# Altium schematic symbol library axsem_actives_v1-9.SCHLIB: 25 symbols
Pins are listed as number, name and electrical type; pins without a type are passive.

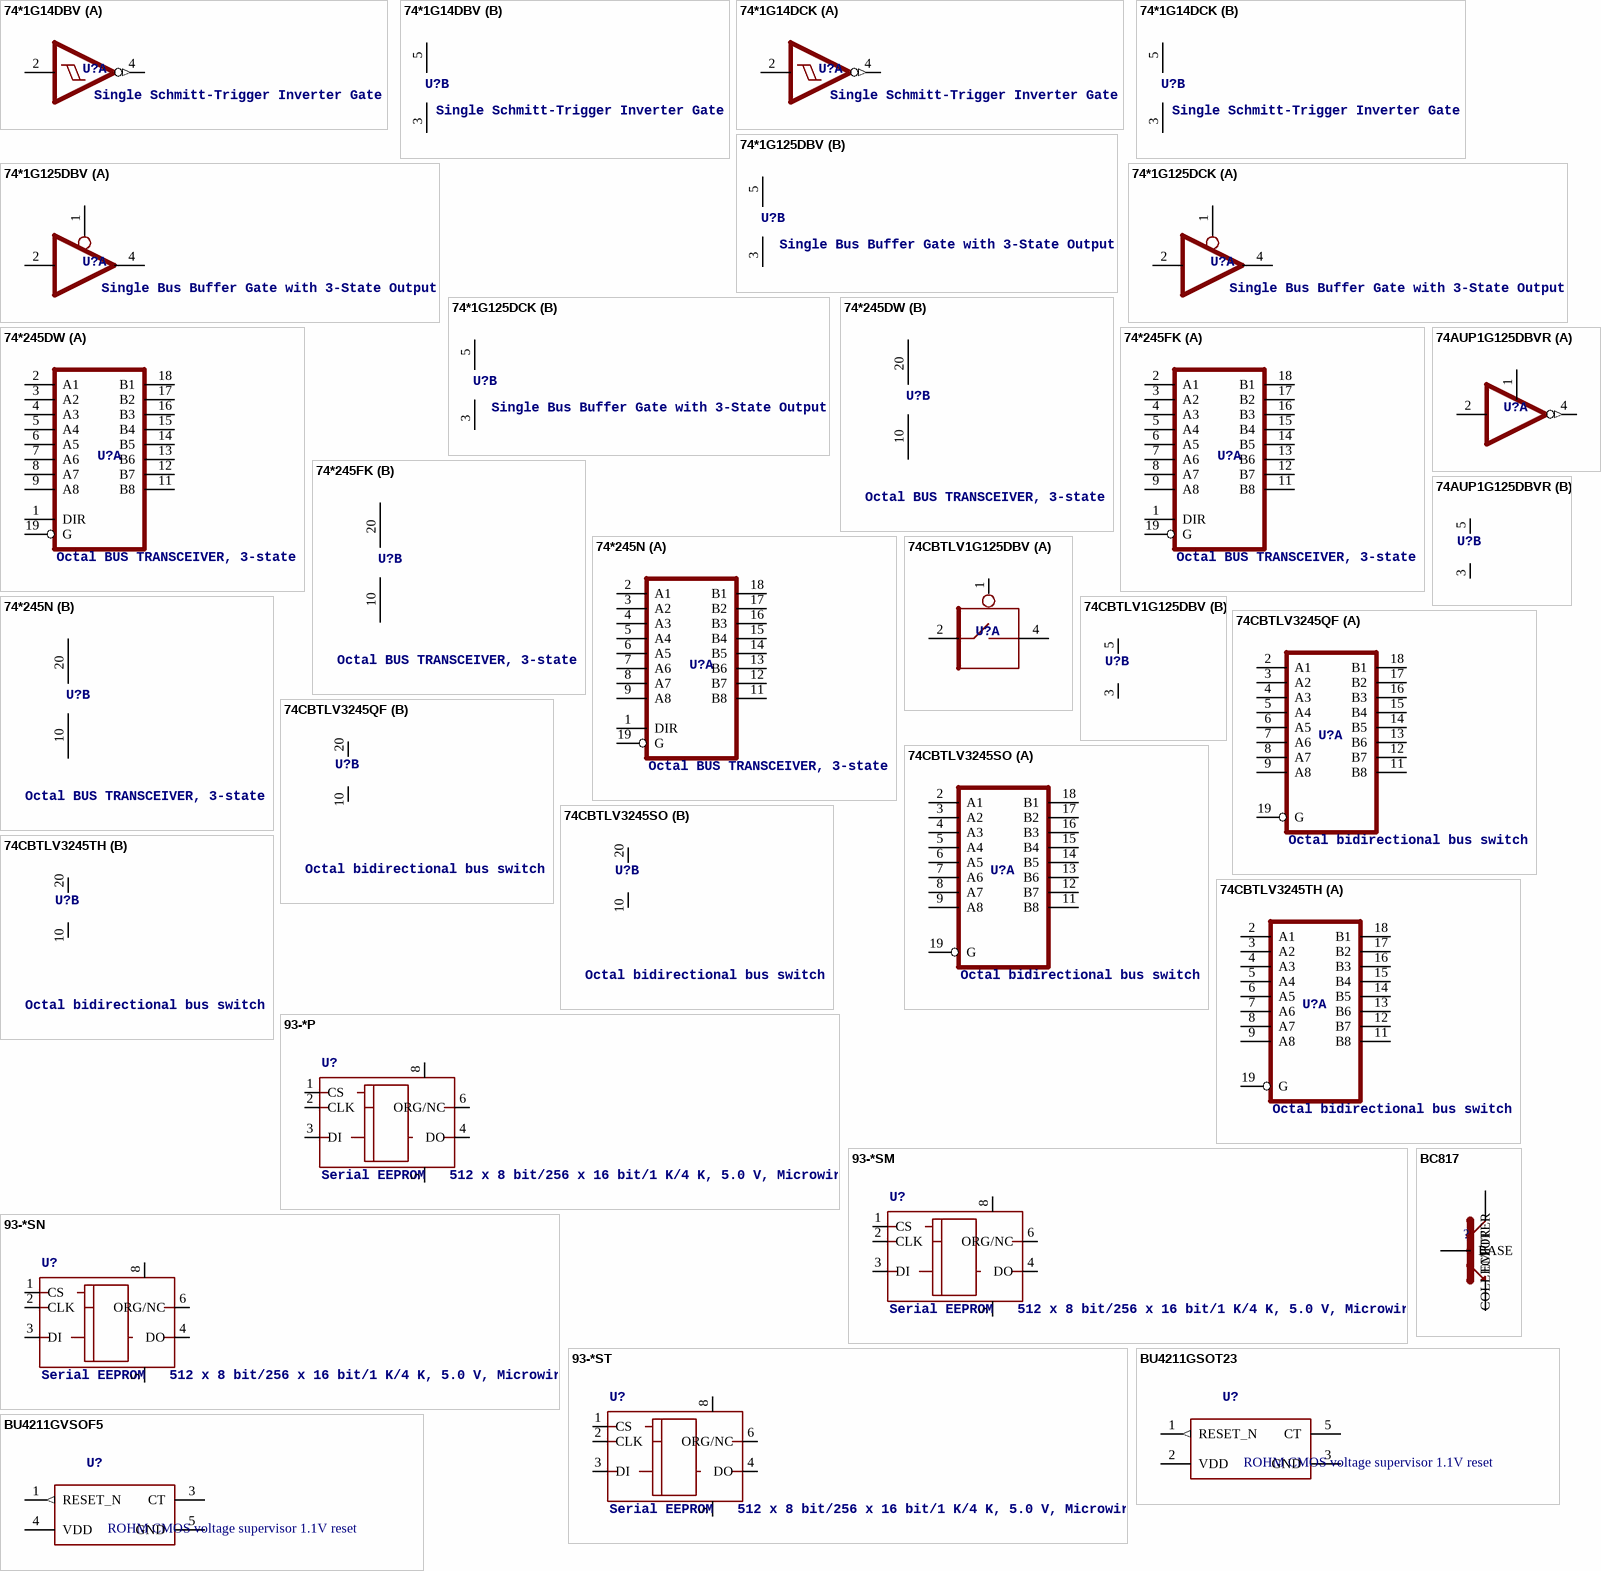
[diagram p0: symbols 74*1G14DBV to BU4211GVSOF5]

## 74*1G14DBV
designator U?, comment Single Schmitt-Trigger Inverter Gate
footprint SOT23-5
part A pins: 2 I, 4 O (out)
part B pins: 3 GND (power), 5 VCC (power)

## 74*1G14DCK
designator U?, comment Single Schmitt-Trigger Inverter Gate
footprint SC70-5
part A pins: 2 I, 4 O (out)
part B pins: 3 GND (power), 5 VCC (power)

## 74*1G125DBV
designator U?, comment Single Bus Buffer Gate with 3-State Output
footprint SOT23-5
part A pins: 1 OE, 2 I, 4 O (hiz)
part B pins: 3 GND (power), 5 VCC (power)

## 74*1G125DCK
designator U?, comment Single Bus Buffer Gate with 3-State Output
footprint SC70-5
part A pins: 1 OE, 2 I, 4 O (hiz)
part B pins: 3 GND (power), 5 VCC (power)

## 74*245DW
designator U?, comment Octal BUS TRANSCEIVER, 3-state
footprint SO20W
part A pins: 1 DIR, 2 A1, 3 A2, 4 A3, 5 A4, 6 A5, 7 A6, 8 A7, 9 A8, 11 B8, 12 B7, 13 B6, 14 B5, 15 B4, 16 B3, 17 B2, 18 B1, 19 G
part B pins: 10 GND (power), 20 VCC (power)

## 74*245FK
designator U?, comment Octal BUS TRANSCEIVER, 3-state
footprint LCC20
part A pins: 1 DIR, 2 A1, 3 A2, 4 A3, 5 A4, 6 A5, 7 A6, 8 A7, 9 A8, 11 B8, 12 B7, 13 B6, 14 B5, 15 B4, 16 B3, 17 B2, 18 B1, 19 G
part B pins: 10 GND (power), 20 VCC (power)

## 74*245N
designator U?, comment Octal BUS TRANSCEIVER, 3-state
footprint DIL20
part A pins: 1 DIR, 2 A1, 3 A2, 4 A3, 5 A4, 6 A5, 7 A6, 8 A7, 9 A8, 11 B8, 12 B7, 13 B6, 14 B5, 15 B4, 16 B3, 17 B2, 18 B1, 19 G
part B pins: 10 GND (power), 20 VCC (power)

## 74AUP1G125DBVR
designator U?
footprint SOT23-5
part A pins: 1 OE, 2 I, 4 O (out)
part B pins: 3 GND (power), 5 VDD (power)

## 74CBTLV1G125DBV
designator U?
footprint SOT23-5
part A pins: 1 OE, 2 I, 4 O (hiz)
part B pins: 3 GND (power), 5 VDD (power)

## 74CBTLV3245QF
designator U?, comment Octal bidirectional bus switch
footprint LCC20
part A pins: 2 A1, 3 A2, 4 A3, 5 A4, 6 A5, 7 A6, 8 A7, 9 A8, 11 B8, 12 B7, 13 B6, 14 B5, 15 B4, 16 B3, 17 B2, 18 B1, 19 G
part B pins: 10 GND (power), 20 VDD (power)

## 74CBTLV3245SO
designator U?, comment Octal bidirectional bus switch
footprint SO20W
part A pins: 2 A1, 3 A2, 4 A3, 5 A4, 6 A5, 7 A6, 8 A7, 9 A8, 11 B8, 12 B7, 13 B6, 14 B5, 15 B4, 16 B3, 17 B2, 18 B1, 19 G
part B pins: 10 GND (power), 20 VDD (power)

## 74CBTLV3245TH
designator U?, comment Octal bidirectional bus switch
footprint DIL20
part A pins: 2 A1, 3 A2, 4 A3, 5 A4, 6 A5, 7 A6, 8 A7, 9 A8, 11 B8, 12 B7, 13 B6, 14 B5, 15 B4, 16 B3, 17 B2, 18 B1, 19 G
part B pins: 10 GND (power), 20 VDD (power)

## 93-*P
designator U?, comment Serial EEPROM   512 x 8 bit/256 x 16 bit/1 K/4 K, 5.0 V, Microwire
footprint DIL8
pins: 1 CS, 2 CLK, 3 DI, 4 DO (hiz), 5 GND (power), 6 ORG/NC, 8 VCC (power)

## 93-*SM
designator U?, comment Serial EEPROM   512 x 8 bit/256 x 16 bit/1 K/4 K, 5.0 V, Microwire
footprint SO-08M
pins: 1 CS, 2 CLK, 3 DI, 4 DO (hiz), 5 GND (power), 6 ORG/NC, 8 VCC (power)

## 93-*SN
designator U?, comment Serial EEPROM   512 x 8 bit/256 x 16 bit/1 K/4 K, 5.0 V, Microwire
footprint SO-08
pins: 1 CS, 2 CLK, 3 DI, 4 DO (hiz), 5 GND (power), 6 ORG/NC, 8 VCC (power)

## 93-*ST
designator U?, comment Serial EEPROM   512 x 8 bit/256 x 16 bit/1 K/4 K, 5.0 V, Microwire
footprint TSSOP8
pins: 1 CS, 2 CLK, 3 DI, 4 DO (hiz), 5 GND (power), 6 ORG/NC, 8 VCC (power)

## BC817
designator ?
footprint SOT23
pins: BASE, COLLECTOR, EMITTER

## BU4211GSOT23
designator U?, comment ROHM CMOS voltage supervisor 1.1V reset
footprint SOT23-5
pins: 1 RESET_N (out), 2 VDD (power), 3 GND (power), 5 CT

## BU4211GVSOF5
designator U?, comment ROHM CMOS voltage supervisor 1.1V reset
footprint VSOF5
pins: 1 RESET_N (out), 3 CT, 4 VDD (power), 5 GND (power)

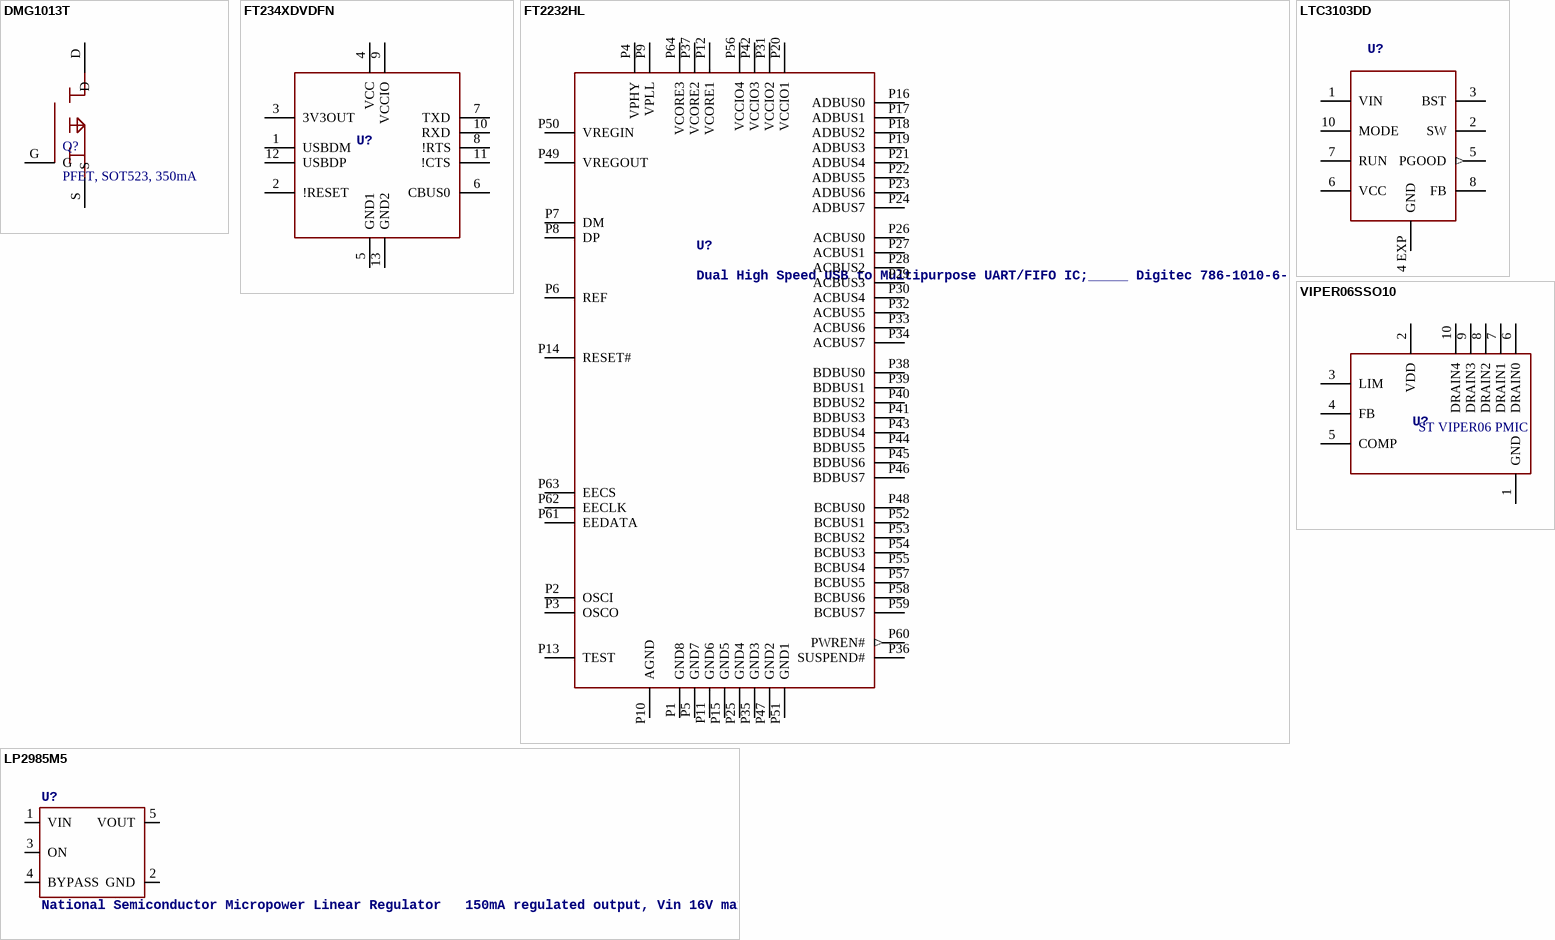
[diagram p1: symbols DMG1013T to VIPER06SSO10]

## DMG1013T
designator Q?, comment PFET, SOT523, 350mA
footprint SOT-523
pins: D, G, S

## FT234XDVDFN
designator U?
footprint DFN12
pins: 1 USBDM, 2 !RESET, 3 3V3OUT (power), 4 VCC (power), 5 GND1 (power), 6 CBUS0, 7 TXD, 8 !RTS, 9 VCCIO (power), 10 RXD, 11 !CTS, 12 USBDP, 13 GND2 (power)

## FT2232HL
designator U?, comment Dual High Speed USB to Multipurpose UART/FIFO IC;_____ Digitec 786-1010-6-ND
footprint LQFP64
pins: P1 GND8 (power), P2 OSCI, P3 OSCO, P4 VPHY (power), P5 GND7 (power), P6 REF, P7 DM, P8 DP, P9 VPLL (power), P10 AGND (power), P11 GND6 (power), P12 VCORE1 (power), P13 TEST, P14 RESET#, P15 GND5 (power), P16 ADBUS0, P17 ADBUS1, P18 ADBUS2, P19 ADBUS3, P20 VCCIO1 (power), P21 ADBUS4, P22 ADBUS5, P23 ADBUS6, P24 ADBUS7, P25 GND4 (power), P26 ACBUS0, P27 ACBUS1, P28 ACBUS2, P29 ACBUS3, P30 ACBUS4, P31 VCCIO2 (power), P32 ACBUS5, P33 ACBUS6, P34 ACBUS7, P35 GND3 (power), P36 SUSPEND#, P37 VCORE2 (power), P38 BDBUS0, P39 BDBUS1, P40 BDBUS2, P41 BDBUS3, P42 VCCIO3 (power), P43 BDBUS4, P44 BDBUS5, P45 BDBUS6, P46 BDBUS7, P47 GND2 (power), P48 BCBUS0, P49 VREGOUT (power), P50 VREGIN (power), P51 GND1 (power), P52 BCBUS1, P53 BCBUS2, P54 BCBUS3, P55 BCBUS4, P56 VCCIO4 (power), P57 BCBUS5, P58 BCBUS6, P59 BCBUS7, P60 PWREN# (out), P61 EEDATA, P62 EECLK, P63 EECS, P64 VCORE3 (power)

## LP2985M5
designator U?, comment National Semiconductor Micropower Linear Regulator   150mA regulated output, Vin 16V max., ultra-low dropout of 300mV @ 150mA, 1µA standby current, low noise
footprint SOT23-5
pins: 1 VIN (power), 2 GND (power), 3 ON, 4 BYPASS, 5 VOUT (power)

## LTC3103DD
designator U?
footprint DFN10_3X3
pins: 1 VIN (power), 2 SW, 3 BST, 4 EXP GND (power), 5 PGOOD (out), 6 VCC (power), 7 RUN, 8 FB, 10 MODE

## VIPER06SSO10
designator U?, comment ST VIPER06 PMIC
footprint SSO10
pins: 1 GND (power), 2 VDD (power), 3 LIM, 4 FB, 5 COMP, 6 DRAIN0, 7 DRAIN1, 8 DRAIN2, 9 DRAIN3, 10 DRAIN4